# Altium footprint library PianoSwitch.PcbLib: 1 footprints
Each footprint in its own frame and in the unit in brackets; x right, y up, seen from the top. Pads: shape width x height; smd on the part's side, far side on the other; paste and mask are expansions set on the pad; w line width, h text height; cw(c..) or ccw(c..) is an arc to the next point about the centre after c.
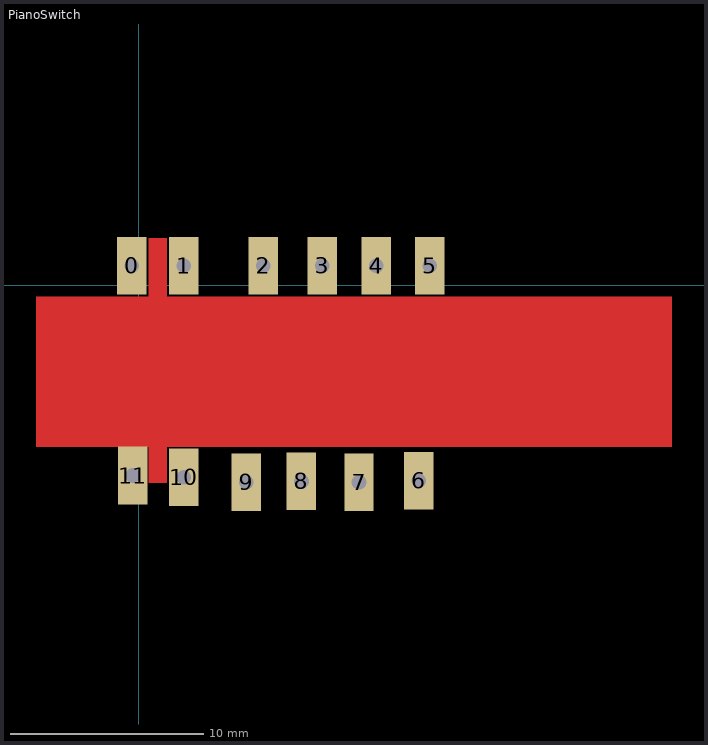
[diagram p0: the footprint, top view; thin cyan lines are the x and y axes]

## PianoSwitch [mil] "DipSwitch6"
pads (12):
  rect 60x117.5 hole 30: 0(-14,40) 1(92,40) 2(254,40) 3(374.5,40) 4(484.5,40) 5(593.5,40) 6(571,-398) 7(449.5,-401) 8(332,-399.5) 9(219.5,-401) 10(92,-391) 11(-12,-387.5)
Top Layer:
  rectangle: 20,-403 58,97
  rectangle: -209.5,-329 1088,-22.5